# Altium footprint library BSC340N08NS3G.PcbLib: 1 footprints
Each footprint in its own frame and in the unit in brackets; x right, y up, seen from the top. Pads: shape width x height; smd on the part's side, far side on the other; paste and mask are expansions set on the pad; w line width, h text height; cw(c..) or ccw(c..) is an arc to the next point about the centre after c.
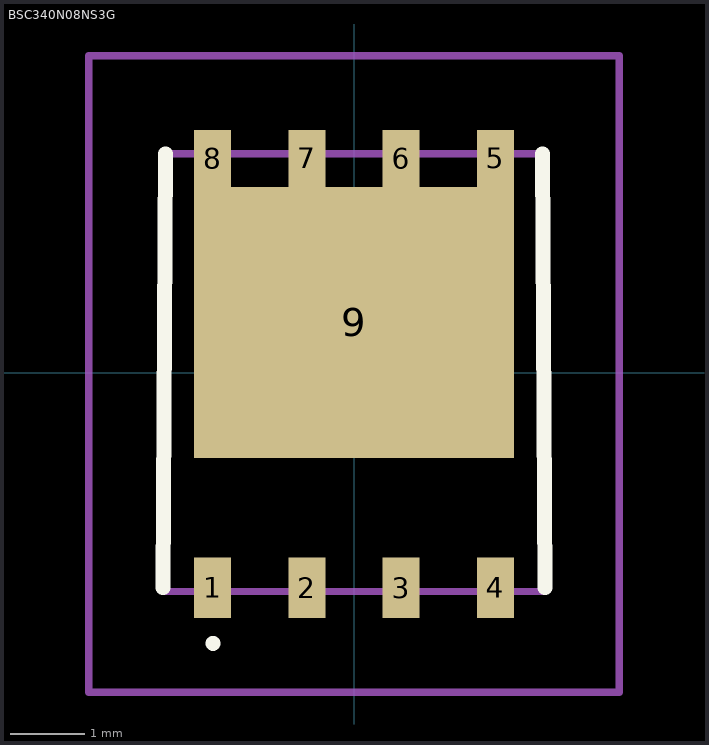
[diagram p0: the footprint, top view; thin cyan lines are the x and y axes]

## BSC340N08NS3G [mm]
pads (9):
  rect 0.5x0.815 smd: 1(-1.905,-2.9) 2(-0.635,-2.9) 3(0.635,-2.9) 4(1.905,-2.9)
  rect 0.5x0.765 smd: 5(1.905,2.888) 6(0.635,2.888) 7(-0.635,2.888) 8(-1.905,2.888)
  rect 4.31x3.655 smd: 9(0,0.678)
Top Overlay:
  lines w0.1: -1.9,-3.7 cw(c-1.9,-3.65) -1.9,-3.6 ; -1.9,-3.7 -1.9,-3.7 ; -1.9,-3.7 ccw(c-1.9,-3.65) -1.9,-3.6 ; -1.9,-3.6 -1.9,-3.6
  lines w0.2: -2.575,-2.9 -2.54,2.95 ; 2.54,2.95 2.575,-2.9
Mechanical 15:
  lines w0.1: -2.575,-2.95 2.575,-2.95 2.575,2.95 -2.575,2.95 -2.575,-2.95
Mechanical 20:
  lines w0.1: -3.575,-4.307 3.575,-4.307 3.575,4.271 -3.575,4.271 -3.575,-4.307